# Altium schematic symbol library SHT3X-DIS.SchLib: 1 symbol
Pins are listed as number, name and electrical type; pins without a type are passive.

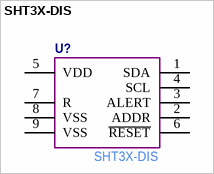
[diagram p0: symbol SHT3X-DIS]

## SHT3X-DIS
designator U?  Manufacturer Part Number: SHT3X-DIS  (hidden comment: *)
pins: 1 SDA, 2 ADDR, 3 ALERT, 4 SCL, 5 VDD, 6 ~{RESET}, 7 R, 8 VSS, 9 VSS